# Altium footprint library 17762671.PcbLib: 1 footprints
Each footprint in its own frame and in the unit in brackets; x right, y up, seen from the top. Pads: shape width x height; smd on the part's side, far side on the other; paste and mask are expansions set on the pad; w line width, h text height; cw(c..) or ccw(c..) is an arc to the next point about the centre after c.
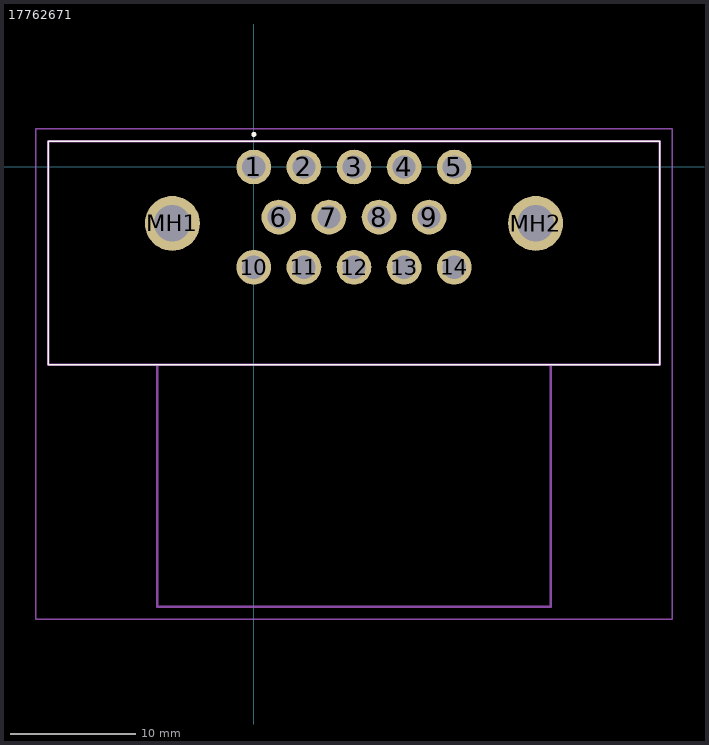
[diagram p0: the footprint, top view; thin cyan lines are the x and y axes]

## 17762671 [mm]
pads (16):
  round 2.775 hole 1.85: 1(0,0) 2(4,0) 3(8,0) 4(12,0) 5(16,0) 6(2,-4) 7(6,-4) 8(10,-4) 9(14,-4) 10(0,-8) 11(4,-8) 12(8,-8) 13(12,-8) 14(16,-8)
  round 4.395 hole 2.93: MH1(-6.5,-4.5) MH2(22.5,-4.5)
Top Overlay:
  lines w0.1: -16.4,-15.8 32.4,-15.8 32.4,2.05 -16.4,2.05 -16.4,-15.8
  lines w0.2: 0,2.5 0,2.5 ; 0,2.5 ccw(c0,2.6) 0,2.7 ; 0,2.5 cw(c0,2.6) 0,2.7 ; 0,2.7 0,2.7
Mechanical 15:
  lines w0.2: -16.4,-15.8 32.4,-15.8 32.4,2.05 -16.4,2.05 -16.4,-15.8 ; -7.7,-35.1 23.7,-35.1 23.7,-15.8 -7.7,-15.8 -7.7,-35.1
Mechanical 20:
  lines w0.1: -17.4,-36.1 33.4,-36.1 33.4,3.05 -17.4,3.05 -17.4,-36.1